# Altium integrated library TI Data Converters Analog to Digital Converter.IntLib: 2197 symbols (part 85 of 168)
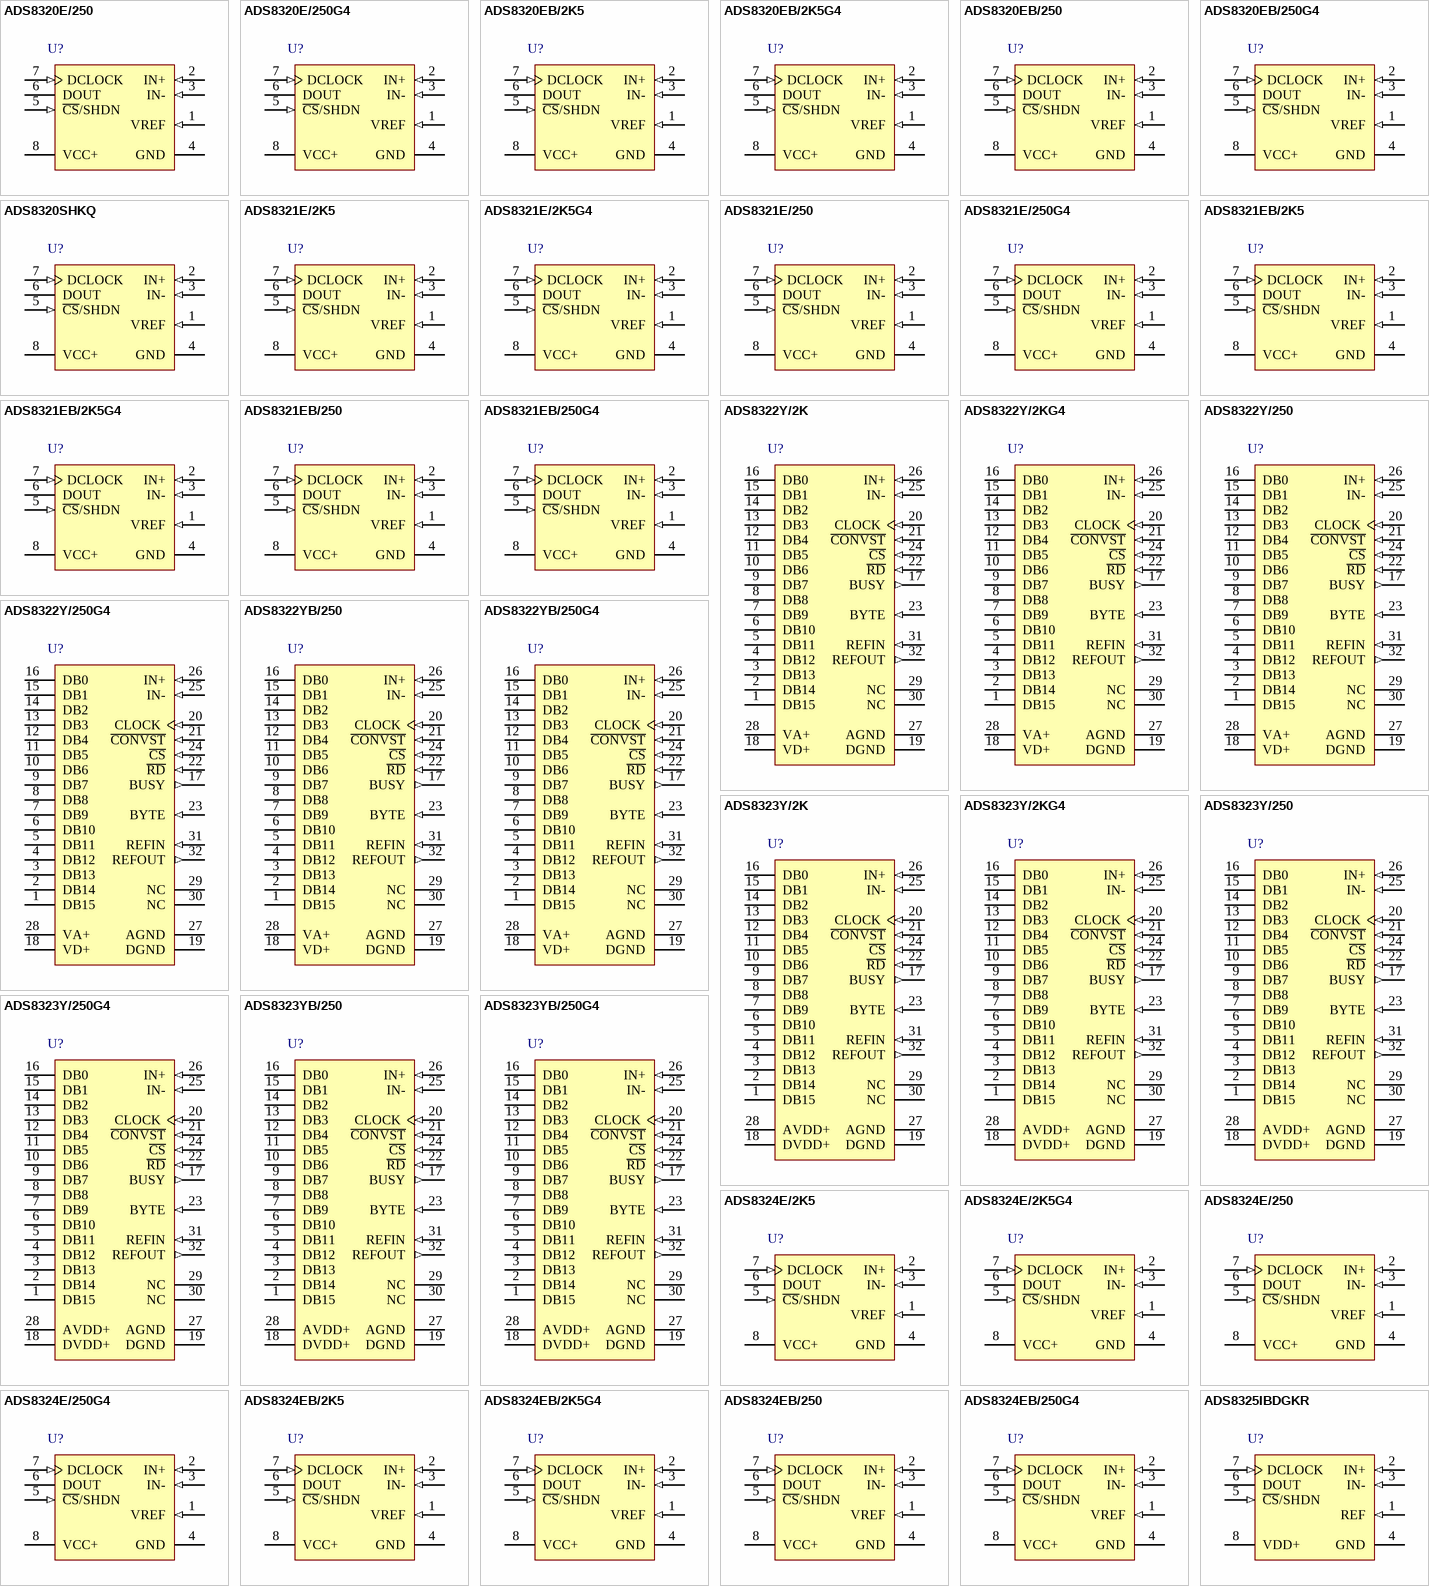
[diagram p210: symbols ADS8320E/250 to ADS8325IBDGKR]

## ADS8323YB/250G4
designator U?
Pseudo Bipolar, 16-Bit, 500 kSPS CMOS ADC, -40 to 85 degC, 32-pin QFP (PBS32), Green (RoHS & no Sb/Br); Manufacturer: Texas Instruments; PartNumber: ADS8323YB/250G4; # Input Channels: 1; Analog Voltage AV/DD(Max)(V): 5.25; Analog Voltage AV/DD(Min)(V): 4.75; Architecture: SAR; INL(Max)(+/-LSB): 6; Interface: Parallel CMOS; Resolution(Bits): 16; Sample Rate (max)(SPS): 500k; SFDR(dB): 96; SINAD(dB): 83; SubFamily: Precision ADC (<=10MSPS); DatasheetVersion: SBAS224C; PackageVersion: 4087735/B, 07/2005; PackageReference: PBS32; PackageDescription: 32-Pin Plastic Flat Pack, Body 5 X 5 mm, Pitch 0.5 mm; Supplier 1: Digi-Key; Supplier Part Number 1: ADS823EG4-ND; Supplier 2: Mouser; Supplier Part Number 2: 595-ADS823EG4; Digital Supply(Max)(V): 5.25; Digital Supply(Min)(V): 4.75; Eco-Plan: Green (RoHS & no Sb/Br); Mounting Technology: Surface Mount; Code_JEDEC: MS-026; ComponentLink1Description: Manufacturer URL; ComponentLink1URL: http://www.ti.com/; ComponentLink2Description: Datasheet; ComponentLink2URL: http://www.ti.com/general/docs/lit/getliterature.tsp?genericPartNumber=ADS8323&fileType=pdf; ComponentLink3Description: Package Specification; ComponentLink3URL: http://www.ti.com/lit/ml/mpqf027a/mpqf027a.pdf
footprint TI-PBS32_N (QFP, 32-Leads, Body 5x5mm, Pitch 0.5mm, IPC Medium Density)
footprint TI-PBS32_L (QFP, 32-Leads, Body 5x5mm, Pitch 0.5mm, IPC High Density)
footprint TI-PBS32_M (QFP, 32-Leads, Body 5x5mm, Pitch 0.5mm, IPC Low Density)
pins: 1 DB15 (hiz) "Data Bit 15 (MSB)", 2 DB14 (hiz) "Data Bit 14", 3 DB13 (hiz) "Data Bit 13", 4 DB12 (hiz) "Data Bit 12", 5 DB11 (hiz) "Data Bit 11", 6 DB10 (hiz) "Data Bit 10", 7 DB9 (hiz) "Data Bit 9", 8 DB8 (hiz) "Data Bit 8", 9 DB7 (hiz) "Data Bit 7", 10 DB6 (hiz) "Data Bit 6", 11 DB5 (hiz) "Data Bit 5", 12 DB4 (hiz) "Data Bit 4", 13 DB3 (hiz) "Data Bit 3", 14 DB2 (hiz) "Data Bit 2", 15 DB1 (hiz) "Data Bit 1", 16 DB0 (hiz) "Data Bit 0 (LSB)", 17 BUSY (out) "High when a conversion is in progress.", 18 DVDD+ (power) "Digital Power Supply, +5VDC.", 19 DGND (power) "Digital Ground", 20 CLOCK (in) "An external CMOS-compatible clock can be applied to the CLOCK input to synchronize the conversion process to an external source.", 21 ~{CONVST} (in) "Convert Start", 22 ~{RD} (in) "Synchronization pulse for the parallel output.", 23 BYTE (in) "Selects eight most significant bits (low) or eight least significant bits (high). Data valid on pins 9-16.", 24 ~{CS} (in) "Chip Select", 25 IN- (in) "Inverting Input Channel", 26 IN+ (in) "Noninverting Input Channel", 27 AGND (power) "Analog Ground", 28 AVDD+ (power) "Analog Power Supply, +5VDC.", 29 NC "No connection", 30 NC "No connection", 31 REFIN (in) "Reference Input. When using the internal 2.5V reference, tie this pin directly to REFOUT.", 32 REFOUT (out) "Reference Output. A 0.1uF capacitor should be connected to this pin when the internal reference is used."

## ADS8324E/2K5
designator U?
14-Bit 50 kSPS ADC Serial Out, 1.8 V Operation, -40 to 85 degC, 8-pin SOP (DGK8), Green (RoHS & no Sb/Br); Manufacturer: Texas Instruments; PartNumber: ADS8324E/2K5; # Input Channels: 1; Analog Voltage AV/DD(Max)(V): 3.6; Analog Voltage AV/DD(Min)(V): 1.8; Architecture: SAR; INL(Max)(+/-LSB): 3; Interface: Serial SPI; Resolution(Bits): 14; Sample Rate (max)(SPS): 50k; SFDR(dB): 85; SINAD(dB): 77; SNR(dB): 78; SubFamily: Precision ADC (<=10MSPS); DatasheetVersion: SBAS172A; PackageVersion: 4073329/E, 05/2006; PackageReference: DGK8; PackageDescription: 8-Pin Thin Small Outline, Body 3 x 3 mm, Pitch 0.65 mm; Supplier 1: Digi-Key; Supplier Part Number 1: ADS822E-ND; Supplier 2: Farnell; Supplier Part Number 2: 1295961; Supplier 3: Newark; Supplier Part Number 3: 74C7212; Supplier 4: Mouser; Supplier Part Number 4: 595-ADS822E; Digital Supply(Max)(V): 3.6; Digital Supply(Min)(V): 1.8; Eco-Plan: Green (RoHS & no Sb/Br); Mounting Technology: Surface Mount; Code_JEDEC: MO-187; ComponentLink1Description: Manufacturer URL; ComponentLink1URL: http://www.ti.com/; ComponentLink2Description: Datasheet; ComponentLink2URL: http://www.ti.com/general/docs/lit/getliterature.tsp?genericPartNumber=ADS8324&fileType=pdf; ComponentLink3Description: Package Specification; ComponentLink3URL: http://www.ti.com/litv/pdf/mpds028d
footprint TI-DGK8_N (SOP, 8-Leads, Body 3x3mm, Pitch 0.65mm, IPC Medium Density)
footprint TI-DGK8_L (SOP, 8-Leads, Body 3x3mm, Pitch 0.65mm, IPC High Density)
footprint TI-DGK8_M (SOP, 8-Leads, Body 3x3mm, Pitch 0.65mm, IPC Low Density)
pins: 1 VREF (in) "Reference Input", 2 IN+ (in) "Non Inverting Input", 3 IN- (in) "Inverting Input", 4 GND (power) "Ground", 5 ~{CS}/SHDN (in) "Chip Select when LOW, Shutdown Mode when HIGH.", 6 DOUT (hiz) "The serial output data word is comprised of 16 bits of data. In operation, the data is valid on the rising edge of DCLOCK. The fifth falling edge of DCLOCK after the falling edge of C\S\ enables the serial output. After one (See Datasheet)", 7 DCLOCK (in) "Data Clock synchronizes the serial data transfer and determines conversion speed.", 8 VCC+ (power) "Power Supply"

## ADS8324E/2K5G4
designator U?
14-Bit 50 kSPS ADC Serial Out, 1.8 V Operation, -40 to 85 degC, 8-pin SOP (DGK8), Green (RoHS & no Sb/Br); Manufacturer: Texas Instruments; PartNumber: ADS8324E/2K5G4; # Input Channels: 1; Analog Voltage AV/DD(Max)(V): 3.6; Analog Voltage AV/DD(Min)(V): 1.8; Architecture: SAR; INL(Max)(+/-LSB): 3; Interface: Serial SPI; Resolution(Bits): 14; Sample Rate (max)(SPS): 50k; SFDR(dB): 85; SINAD(dB): 77; SNR(dB): 78; SubFamily: Precision ADC (<=10MSPS); DatasheetVersion: SBAS172A; PackageVersion: 4073329/E, 05/2006; PackageReference: DGK8; PackageDescription: 8-Pin Thin Small Outline, Body 3 x 3 mm, Pitch 0.65 mm; Supplier 1: Digi-Key; Supplier Part Number 1: ADS822E/1K-ND; Supplier 2: Mouser; Supplier Part Number 2: 595-ADS822E/1K; Digital Supply(Max)(V): 3.6; Digital Supply(Min)(V): 1.8; Eco-Plan: Green (RoHS & no Sb/Br); Mounting Technology: Surface Mount; Code_JEDEC: MO-187; ComponentLink1Description: Manufacturer URL; ComponentLink1URL: http://www.ti.com/; ComponentLink2Description: Datasheet; ComponentLink2URL: http://www.ti.com/general/docs/lit/getliterature.tsp?genericPartNumber=ADS8324&fileType=pdf; ComponentLink3Description: Package Specification; ComponentLink3URL: http://www.ti.com/litv/pdf/mpds028d
footprint TI-DGK8_N (SOP, 8-Leads, Body 3x3mm, Pitch 0.65mm, IPC Medium Density)
footprint TI-DGK8_L (SOP, 8-Leads, Body 3x3mm, Pitch 0.65mm, IPC High Density)
footprint TI-DGK8_M (SOP, 8-Leads, Body 3x3mm, Pitch 0.65mm, IPC Low Density)
pins: 1 VREF (in) "Reference Input", 2 IN+ (in) "Non Inverting Input", 3 IN- (in) "Inverting Input", 4 GND (power) "Ground", 5 ~{CS}/SHDN (in) "Chip Select when LOW, Shutdown Mode when HIGH.", 6 DOUT (hiz) "The serial output data word is comprised of 16 bits of data. In operation, the data is valid on the rising edge of DCLOCK. The fifth falling edge of DCLOCK after the falling edge of C\S\ enables the serial output. After one (See Datasheet)", 7 DCLOCK (in) "Data Clock synchronizes the serial data transfer and determines conversion speed.", 8 VCC+ (power) "Power Supply"

## ADS8324E/250
designator U?
14-Bit 50 kSPS ADC Serial Out, 1.8 V Operation, -40 to 85 degC, 8-pin SOP (DGK8), Green (RoHS & no Sb/Br); Manufacturer: Texas Instruments; PartNumber: ADS8324E/250; # Input Channels: 1; Analog Voltage AV/DD(Max)(V): 3.6; Analog Voltage AV/DD(Min)(V): 1.8; Architecture: SAR; INL(Max)(+/-LSB): 3; Interface: Serial SPI; Resolution(Bits): 14; Sample Rate (max)(SPS): 50k; SFDR(dB): 85; SINAD(dB): 77; SNR(dB): 78; SubFamily: Precision ADC (<=10MSPS); DatasheetVersion: SBAS172A; PackageVersion: 4073329/E, 05/2006; PackageReference: DGK8; PackageDescription: 8-Pin Thin Small Outline, Body 3 x 3 mm, Pitch 0.65 mm; Supplier 1: Digi-Key; Supplier Part Number 1: ADS822E/1KG4-ND; Supplier 2: Mouser; Supplier Part Number 2: 595-ADS822E/1KG4; Digital Supply(Max)(V): 3.6; Digital Supply(Min)(V): 1.8; Eco-Plan: Green (RoHS & no Sb/Br); Mounting Technology: Surface Mount; Code_JEDEC: MO-187; ComponentLink1Description: Manufacturer URL; ComponentLink1URL: http://www.ti.com/; ComponentLink2Description: Datasheet; ComponentLink2URL: http://www.ti.com/general/docs/lit/getliterature.tsp?genericPartNumber=ADS8324&fileType=pdf; ComponentLink3Description: Package Specification; ComponentLink3URL: http://www.ti.com/litv/pdf/mpds028d
footprint TI-DGK8_N (SOP, 8-Leads, Body 3x3mm, Pitch 0.65mm, IPC Medium Density)
footprint TI-DGK8_L (SOP, 8-Leads, Body 3x3mm, Pitch 0.65mm, IPC High Density)
footprint TI-DGK8_M (SOP, 8-Leads, Body 3x3mm, Pitch 0.65mm, IPC Low Density)
pins: 1 VREF (in) "Reference Input", 2 IN+ (in) "Non Inverting Input", 3 IN- (in) "Inverting Input", 4 GND (power) "Ground", 5 ~{CS}/SHDN (in) "Chip Select when LOW, Shutdown Mode when HIGH.", 6 DOUT (hiz) "The serial output data word is comprised of 16 bits of data. In operation, the data is valid on the rising edge of DCLOCK. The fifth falling edge of DCLOCK after the falling edge of C\S\ enables the serial output. After one (See Datasheet)", 7 DCLOCK (in) "Data Clock synchronizes the serial data transfer and determines conversion speed.", 8 VCC+ (power) "Power Supply"

## ADS8324E/250G4
designator U?
14-Bit 50 kSPS ADC Serial Out, 1.8 V Operation, -40 to 85 degC, 8-pin SOP (DGK8), Green (RoHS & no Sb/Br); Manufacturer: Texas Instruments; PartNumber: ADS8324E/250G4; # Input Channels: 1; Analog Voltage AV/DD(Max)(V): 3.6; Analog Voltage AV/DD(Min)(V): 1.8; Architecture: SAR; INL(Max)(+/-LSB): 3; Interface: Serial SPI; Resolution(Bits): 14; Sample Rate (max)(SPS): 50k; SFDR(dB): 85; SINAD(dB): 77; SNR(dB): 78; SubFamily: Precision ADC (<=10MSPS); DatasheetVersion: SBAS172A; PackageVersion: 4073329/E, 05/2006; PackageReference: DGK8; PackageDescription: 8-Pin Thin Small Outline, Body 3 x 3 mm, Pitch 0.65 mm; Supplier 1: Digi-Key; Supplier Part Number 1: ADS822EG4-ND; Supplier 2: Mouser; Supplier Part Number 2: 595-ADS822EG4; Digital Supply(Max)(V): 3.6; Digital Supply(Min)(V): 1.8; Eco-Plan: Green (RoHS & no Sb/Br); Mounting Technology: Surface Mount; Code_JEDEC: MO-187; ComponentLink1Description: Manufacturer URL; ComponentLink1URL: http://www.ti.com/; ComponentLink2Description: Datasheet; ComponentLink2URL: http://www.ti.com/general/docs/lit/getliterature.tsp?genericPartNumber=ADS8324&fileType=pdf; ComponentLink3Description: Package Specification; ComponentLink3URL: http://www.ti.com/litv/pdf/mpds028d
footprint TI-DGK8_N (SOP, 8-Leads, Body 3x3mm, Pitch 0.65mm, IPC Medium Density)
footprint TI-DGK8_L (SOP, 8-Leads, Body 3x3mm, Pitch 0.65mm, IPC High Density)
footprint TI-DGK8_M (SOP, 8-Leads, Body 3x3mm, Pitch 0.65mm, IPC Low Density)
pins: 1 VREF (in) "Reference Input", 2 IN+ (in) "Non Inverting Input", 3 IN- (in) "Inverting Input", 4 GND (power) "Ground", 5 ~{CS}/SHDN (in) "Chip Select when LOW, Shutdown Mode when HIGH.", 6 DOUT (hiz) "The serial output data word is comprised of 16 bits of data. In operation, the data is valid on the rising edge of DCLOCK. The fifth falling edge of DCLOCK after the falling edge of C\S\ enables the serial output. After one (See Datasheet)", 7 DCLOCK (in) "Data Clock synchronizes the serial data transfer and determines conversion speed.", 8 VCC+ (power) "Power Supply"

## ADS8324EB/2K5
designator U?
14-Bit 50 kSPS ADC Serial Out, 1.8 V Operation, -40 to 85 degC, 8-pin SOP (DGK8), Green (RoHS & no Sb/Br); Manufacturer: Texas Instruments; PartNumber: ADS8324EB/2K5; # Input Channels: 1; Analog Voltage AV/DD(Max)(V): 3.6; Analog Voltage AV/DD(Min)(V): 1.8; Architecture: SAR; INL(Max)(+/-LSB): 2; Interface: Serial SPI; Resolution(Bits): 14; Sample Rate (max)(SPS): 50k; SFDR(dB): 86; SINAD(dB): 78; SubFamily: Precision ADC (<=10MSPS); DatasheetVersion: SBAS172A; PackageVersion: 4073329/E, 05/2006; PackageReference: DGK8; PackageDescription: 8-Pin Thin Small Outline, Body 3 x 3 mm, Pitch 0.65 mm; Supplier 1: Digi-Key; Supplier Part Number 1: ADS805E-ND; Supplier 2: Farnell; Supplier Part Number 2: 1648608; Supplier 3: Newark; Supplier Part Number 3: 74C7202; Supplier 4: Mouser; Supplier Part Number 4: 595-ADS805E; Digital Supply(Max)(V): 3.6; Digital Supply(Min)(V): 1.8; Eco-Plan: Green (RoHS & no Sb/Br); SNR(dB): 78; Mounting Technology: Surface Mount; Code_JEDEC: MO-187; ComponentLink1Description: Manufacturer URL; ComponentLink1URL: http://www.ti.com/; ComponentLink2Description: Datasheet; ComponentLink2URL: http://www.ti.com/general/docs/lit/getliterature.tsp?genericPartNumber=ADS8324&fileType=pdf; ComponentLink3Description: Package Specification; ComponentLink3URL: http://www.ti.com/litv/pdf/mpds028d
footprint TI-DGK8_N (SOP, 8-Leads, Body 3x3mm, Pitch 0.65mm, IPC Medium Density)
footprint TI-DGK8_L (SOP, 8-Leads, Body 3x3mm, Pitch 0.65mm, IPC High Density)
footprint TI-DGK8_M (SOP, 8-Leads, Body 3x3mm, Pitch 0.65mm, IPC Low Density)
pins: 1 VREF (in) "Reference Input", 2 IN+ (in) "Non Inverting Input", 3 IN- (in) "Inverting Input", 4 GND (power) "Ground", 5 ~{CS}/SHDN (in) "Chip Select when LOW, Shutdown Mode when HIGH.", 6 DOUT (hiz) "The serial output data word is comprised of 16 bits of data. In operation, the data is valid on the rising edge of DCLOCK. The fifth falling edge of DCLOCK after the falling edge of C\S\ enables the serial output. After one (See Datasheet)", 7 DCLOCK (in) "Data Clock synchronizes the serial data transfer and determines conversion speed.", 8 VCC+ (power) "Power Supply"

## ADS8324EB/2K5G4
designator U?
14-Bit 50 kSPS ADC Serial Out, 1.8 V Operation, -40 to 85 degC, 8-pin SOP (DGK8), Green (RoHS & no Sb/Br); Manufacturer: Texas Instruments; PartNumber: ADS8324EB/2K5G4; # Input Channels: 1; Analog Voltage AV/DD(Max)(V): 3.6; Analog Voltage AV/DD(Min)(V): 1.8; Architecture: SAR; INL(Max)(+/-LSB): 2; Interface: Serial SPI; Resolution(Bits): 14; Sample Rate (max)(SPS): 50k; SFDR(dB): 86; SINAD(dB): 78; SubFamily: Precision ADC (<=10MSPS); DatasheetVersion: SBAS172A; PackageVersion: 4073329/E, 05/2006; PackageReference: DGK8; PackageDescription: 8-Pin Thin Small Outline, Body 3 x 3 mm, Pitch 0.65 mm; Supplier 1: Digi-Key; Supplier Part Number 1: ADS805E/1K-ND; Supplier 2: Newark; Supplier Part Number 2: 74C7203; Supplier 3: Mouser; Supplier Part Number 3: 595-ADS805E/1K; Digital Supply(Max)(V): 3.6; Digital Supply(Min)(V): 1.8; Eco-Plan: Green (RoHS & no Sb/Br); SNR(dB): 78; Mounting Technology: Surface Mount; Code_JEDEC: MO-187; ComponentLink1Description: Manufacturer URL; ComponentLink1URL: http://www.ti.com/; ComponentLink2Description: Datasheet; ComponentLink2URL: http://www.ti.com/general/docs/lit/getliterature.tsp?genericPartNumber=ADS8324&fileType=pdf; ComponentLink3Description: Package Specification; ComponentLink3URL: http://www.ti.com/litv/pdf/mpds028d
footprint TI-DGK8_N (SOP, 8-Leads, Body 3x3mm, Pitch 0.65mm, IPC Medium Density)
footprint TI-DGK8_L (SOP, 8-Leads, Body 3x3mm, Pitch 0.65mm, IPC High Density)
footprint TI-DGK8_M (SOP, 8-Leads, Body 3x3mm, Pitch 0.65mm, IPC Low Density)
pins: 1 VREF (in) "Reference Input", 2 IN+ (in) "Non Inverting Input", 3 IN- (in) "Inverting Input", 4 GND (power) "Ground", 5 ~{CS}/SHDN (in) "Chip Select when LOW, Shutdown Mode when HIGH.", 6 DOUT (hiz) "The serial output data word is comprised of 16 bits of data. In operation, the data is valid on the rising edge of DCLOCK. The fifth falling edge of DCLOCK after the falling edge of C\S\ enables the serial output. After one (See Datasheet)", 7 DCLOCK (in) "Data Clock synchronizes the serial data transfer and determines conversion speed.", 8 VCC+ (power) "Power Supply"

## ADS8324EB/250
designator U?
14-Bit 50 kSPS ADC Serial Out, 1.8 V Operation, -40 to 85 degC, 8-pin SOP (DGK8), Green (RoHS & no Sb/Br); Manufacturer: Texas Instruments; PartNumber: ADS8324EB/250; # Input Channels: 1; Analog Voltage AV/DD(Max)(V): 3.6; Analog Voltage AV/DD(Min)(V): 1.8; Architecture: SAR; INL(Max)(+/-LSB): 2; Interface: Serial SPI; Resolution(Bits): 14; Sample Rate (max)(SPS): 50k; SFDR(dB): 86; SINAD(dB): 78; SubFamily: Precision ADC (<=10MSPS); DatasheetVersion: SBAS172A; PackageVersion: 4073329/E, 05/2006; PackageReference: DGK8; PackageDescription: 8-Pin Thin Small Outline, Body 3 x 3 mm, Pitch 0.65 mm; Supplier 1: Digi-Key; Supplier Part Number 1: ADS805E/1KG4-ND; Supplier 2: Mouser; Supplier Part Number 2: 595-ADS805E/1KG4; Digital Supply(Max)(V): 3.6; Digital Supply(Min)(V): 1.8; Eco-Plan: Green (RoHS & no Sb/Br); SNR(dB): 78; Mounting Technology: Surface Mount; Code_JEDEC: MO-187; ComponentLink1Description: Manufacturer URL; ComponentLink1URL: http://www.ti.com/; ComponentLink2Description: Datasheet; ComponentLink2URL: http://www.ti.com/general/docs/lit/getliterature.tsp?genericPartNumber=ADS8324&fileType=pdf; ComponentLink3Description: Package Specification; ComponentLink3URL: http://www.ti.com/litv/pdf/mpds028d
footprint TI-DGK8_N (SOP, 8-Leads, Body 3x3mm, Pitch 0.65mm, IPC Medium Density)
footprint TI-DGK8_L (SOP, 8-Leads, Body 3x3mm, Pitch 0.65mm, IPC High Density)
footprint TI-DGK8_M (SOP, 8-Leads, Body 3x3mm, Pitch 0.65mm, IPC Low Density)
pins: 1 VREF (in) "Reference Input", 2 IN+ (in) "Non Inverting Input", 3 IN- (in) "Inverting Input", 4 GND (power) "Ground", 5 ~{CS}/SHDN (in) "Chip Select when LOW, Shutdown Mode when HIGH.", 6 DOUT (hiz) "The serial output data word is comprised of 16 bits of data. In operation, the data is valid on the rising edge of DCLOCK. The fifth falling edge of DCLOCK after the falling edge of C\S\ enables the serial output. After one (See Datasheet)", 7 DCLOCK (in) "Data Clock synchronizes the serial data transfer and determines conversion speed.", 8 VCC+ (power) "Power Supply"

## ADS8324EB/250G4
designator U?
14-Bit 50 kSPS ADC Serial Out, 1.8 V Operation, -40 to 85 degC, 8-pin SOP (DGK8), Green (RoHS & no Sb/Br); Manufacturer: Texas Instruments; PartNumber: ADS8324EB/250G4; # Input Channels: 1; Analog Voltage AV/DD(Max)(V): 3.6; Analog Voltage AV/DD(Min)(V): 1.8; Architecture: SAR; INL(Max)(+/-LSB): 2; Interface: Serial SPI; Resolution(Bits): 14; Sample Rate (max)(SPS): 50k; SFDR(dB): 86; SINAD(dB): 78; SubFamily: Precision ADC (<=10MSPS); DatasheetVersion: SBAS172A; PackageVersion: 4073329/E, 05/2006; PackageReference: DGK8; PackageDescription: 8-Pin Thin Small Outline, Body 3 x 3 mm, Pitch 0.65 mm; Supplier 1: Digi-Key; Supplier Part Number 1: ADS805EG4-ND; Supplier 2: Farnell; Supplier Part Number 2: 1214353; Supplier 3: Newark; Supplier Part Number 3: 96K6246; Supplier 4: Newark; Supplier Part Number 4: 24K4051; Supplier 5: Mouser; Supplier Part Number 5: 595-ADS805EG4; Digital Supply(Max)(V): 3.6; Digital Supply(Min)(V): 1.8; Eco-Plan: Green (RoHS & no Sb/Br); SNR(dB): 78; Mounting Technology: Surface Mount; Code_JEDEC: MO-187; ComponentLink1Description: Manufacturer URL; ComponentLink1URL: http://www.ti.com/; ComponentLink2Description: Datasheet; ComponentLink2URL: http://www.ti.com/general/docs/lit/getliterature.tsp?genericPartNumber=ADS8324&fileType=pdf; ComponentLink3Description: Package Specification; ComponentLink3URL: http://www.ti.com/litv/pdf/mpds028d
footprint TI-DGK8_N (SOP, 8-Leads, Body 3x3mm, Pitch 0.65mm, IPC Medium Density)
footprint TI-DGK8_L (SOP, 8-Leads, Body 3x3mm, Pitch 0.65mm, IPC High Density)
footprint TI-DGK8_M (SOP, 8-Leads, Body 3x3mm, Pitch 0.65mm, IPC Low Density)
pins: 1 VREF (in) "Reference Input", 2 IN+ (in) "Non Inverting Input", 3 IN- (in) "Inverting Input", 4 GND (power) "Ground", 5 ~{CS}/SHDN (in) "Chip Select when LOW, Shutdown Mode when HIGH.", 6 DOUT (hiz) "The serial output data word is comprised of 16 bits of data. In operation, the data is valid on the rising edge of DCLOCK. The fifth falling edge of DCLOCK after the falling edge of C\S\ enables the serial output. After one (See Datasheet)", 7 DCLOCK (in) "Data Clock synchronizes the serial data transfer and determines conversion speed.", 8 VCC+ (power) "Power Supply"

## ADS8325IBDGKR
designator U?
16-Bit, 100 kSPS Serial Out, 2.7 to 5.5 V Micro Power Sampling ADC, -40 to 85 degC, 8-pin SOP (DGK8), Green (RoHS & no Sb/Br); Manufacturer: Texas Instruments; PartNumber: ADS8325IBDGKR; # Input Channels: 1; Analog Voltage AV/DD(Max)(V): 5.5; Analog Voltage AV/DD(Min)(V): 2.7; Architecture: SAR; ENOB(Bits): 14.7; INL(Max)(+/-LSB): 4; Interface: Serial SPI; Resolution(Bits): 16; Sample Rate (max)(SPS): 100k; SFDR(dB): 108; SINAD(dB): 91; SubFamily: Precision ADC (<=10MSPS); DatasheetVersion: SBAS226C; PackageVersion: 4073329/E, 05/2006; PackageReference: DGK8; PackageDescription: 8-Pin Thin Small Outline, Body 3 x 3 mm, Pitch 0.65 mm; Supplier 1: Digi-Key; Supplier Part Number 1: ADS804E-ND; Supplier 2: Farnell; Supplier Part Number 2: 1459287; Supplier 3: Newark; Supplier Part Number 3: 61M4827; Supplier 4: Newark; Supplier Part Number 4: 35C1571; Supplier 5: Mouser; Supplier Part Number 5: 595-ADS804E; Digital Supply(Max)(V): 5.5; Digital Supply(Min)(V): 2.7; Eco-Plan: Green (RoHS & no Sb/Br); SNR(dB): 91; Mounting Technology: Surface Mount; Code_JEDEC: MO-187; ComponentLink1Description: Manufacturer URL; ComponentLink1URL: http://www.ti.com/; ComponentLink2Description: Datasheet; ComponentLink2URL: http://www.ti.com/general/docs/lit/getliterature.tsp?genericPartNumber=ADS8325&fileType=pdf; ComponentLink3Description: Package Specification; ComponentLink3URL: http://www.ti.com/litv/pdf/mpds028d
footprint TI-DGK8_N (SOP, 8-Leads, Body 3x3mm, Pitch 0.65mm, IPC Medium Density)
footprint TI-DGK8_L (SOP, 8-Leads, Body 3x3mm, Pitch 0.65mm, IPC High Density)
footprint TI-DGK8_M (SOP, 8-Leads, Body 3x3mm, Pitch 0.65mm, IPC Low Density)
pins: 1 REF (in) "Reference Input", 2 IN+ (in) "Noninverting Input", 3 IN- (in) "Inverting Analog Input", 4 GND (power) "Ground", 5 ~{CS}/SHDN (in) "Chip select when low; Shutdown mode when high.", 6 DOUT (hiz) "The serial output data word.", 7 DCLOCK (in) "Data clock synchronizes the serial data transfer and determines conversion speed.", 8 VDD+ (power) "Power supply"

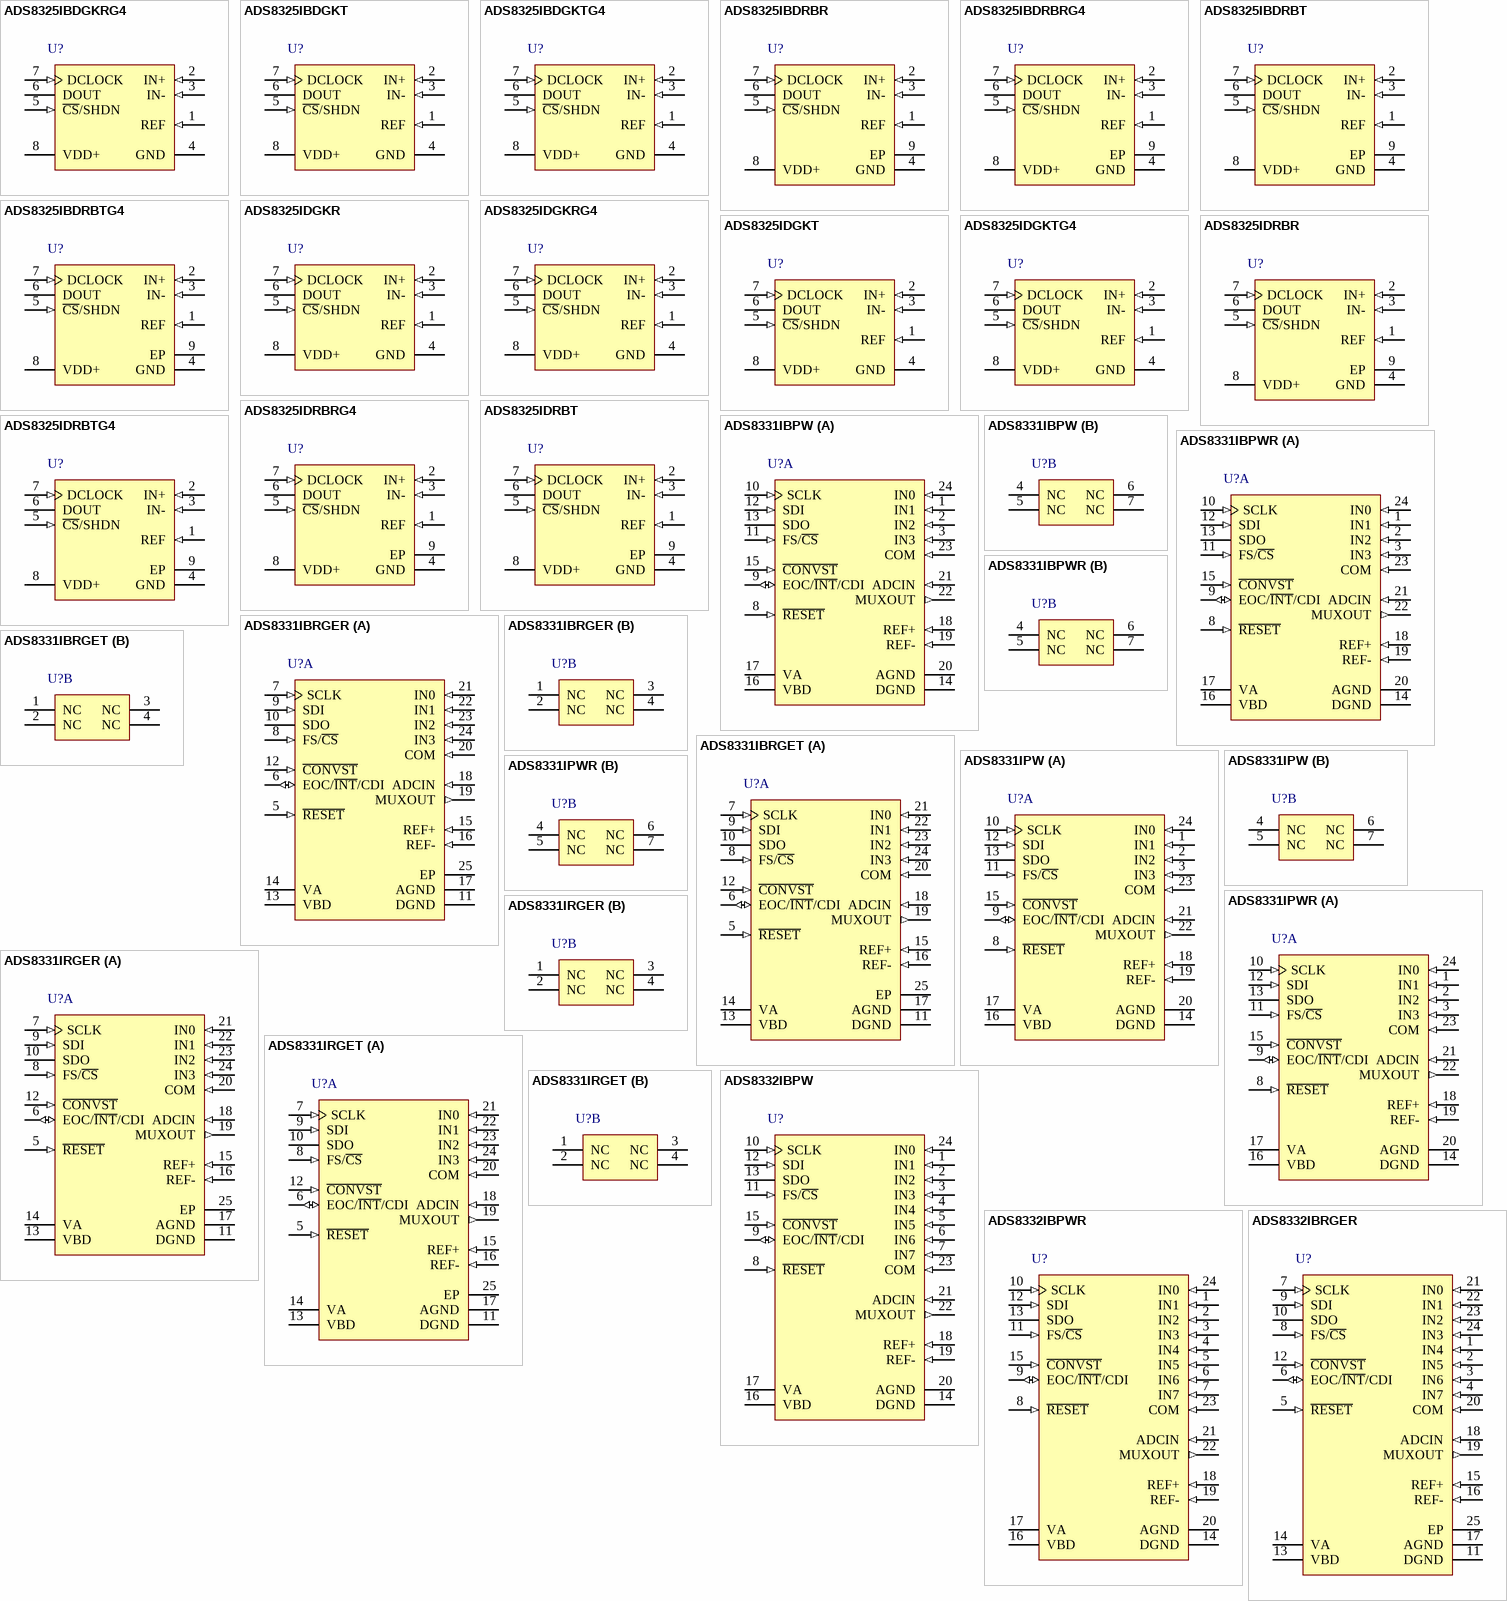
[diagram p74: symbols ADS8325IBDGKRG4 to ADS8332IBRGER]

## ADS8325IBDGKRG4
designator U?
16-Bit, 100 kSPS Serial Out, 2.7 to 5.5 V Micro Power Sampling ADC, -40 to 85 degC, 8-pin SOP (DGK8), Green (RoHS & no Sb/Br); Manufacturer: Texas Instruments; PartNumber: ADS8325IBDGKRG4; # Input Channels: 1; Analog Voltage AV/DD(Max)(V): 5.5; Analog Voltage AV/DD(Min)(V): 2.7; Architecture: SAR; ENOB(Bits): 14.7; INL(Max)(+/-LSB): 4; Interface: Serial SPI; Resolution(Bits): 16; Sample Rate (max)(SPS): 100k; SFDR(dB): 108; SINAD(dB): 91; SubFamily: Precision ADC (<=10MSPS); DatasheetVersion: SBAS226C; PackageVersion: 4073329/E, 05/2006; PackageReference: DGK8; PackageDescription: 8-Pin Thin Small Outline, Body 3 x 3 mm, Pitch 0.65 mm; Supplier 1: Digi-Key; Supplier Part Number 1: ADS804E/1K-ND; Supplier 2: Mouser; Supplier Part Number 2: 595-ADS804E/1K; Digital Supply(Max)(V): 5.5; Digital Supply(Min)(V): 2.7; Eco-Plan: Green (RoHS & no Sb/Br); SNR(dB): 91; Mounting Technology: Surface Mount; Code_JEDEC: MO-187; ComponentLink1Description: Manufacturer URL; ComponentLink1URL: http://www.ti.com/; ComponentLink2Description: Datasheet; ComponentLink2URL: http://www.ti.com/general/docs/lit/getliterature.tsp?genericPartNumber=ADS8325&fileType=pdf; ComponentLink3Description: Package Specification; ComponentLink3URL: http://www.ti.com/litv/pdf/mpds028d
footprint TI-DGK8_N (SOP, 8-Leads, Body 3x3mm, Pitch 0.65mm, IPC Medium Density)
footprint TI-DGK8_L (SOP, 8-Leads, Body 3x3mm, Pitch 0.65mm, IPC High Density)
footprint TI-DGK8_M (SOP, 8-Leads, Body 3x3mm, Pitch 0.65mm, IPC Low Density)
pins: 1 REF (in) "Reference Input", 2 IN+ (in) "Noninverting Input", 3 IN- (in) "Inverting Analog Input", 4 GND (power) "Ground", 5 ~{CS}/SHDN (in) "Chip select when low; Shutdown mode when high.", 6 DOUT (hiz) "The serial output data word.", 7 DCLOCK (in) "Data clock synchronizes the serial data transfer and determines conversion speed.", 8 VDD+ (power) "Power supply"

## ADS8325IBDGKT
designator U?
16-Bit, 100 kSPS Serial Out, 2.7 to 5.5 V Micro Power Sampling ADC, -40 to 85 degC, 8-pin SOP (DGK8), Green (RoHS & no Sb/Br); Manufacturer: Texas Instruments; PartNumber: ADS8325IBDGKT; # Input Channels: 1; Analog Voltage AV/DD(Max)(V): 5.5; Analog Voltage AV/DD(Min)(V): 2.7; Architecture: SAR; ENOB(Bits): 14.7; INL(Max)(+/-LSB): 4; Interface: Serial SPI; Resolution(Bits): 16; Sample Rate (max)(SPS): 100k; SFDR(dB): 108; SINAD(dB): 91; SubFamily: Precision ADC (<=10MSPS); DatasheetVersion: SBAS226C; PackageVersion: 4073329/E, 05/2006; PackageReference: DGK8; PackageDescription: 8-Pin Thin Small Outline, Body 3 x 3 mm, Pitch 0.65 mm; Supplier 1: Digi-Key; Supplier Part Number 1: ADS804E/1KG4-ND; Supplier 2: Mouser; Supplier Part Number 2: 595-ADS804E/1KG4; Digital Supply(Max)(V): 5.5; Digital Supply(Min)(V): 2.7; Eco-Plan: Green (RoHS & no Sb/Br); SNR(dB): 91; Mounting Technology: Surface Mount; Code_JEDEC: MO-187; ComponentLink1Description: Manufacturer URL; ComponentLink1URL: http://www.ti.com/; ComponentLink2Description: Datasheet; ComponentLink2URL: http://www.ti.com/general/docs/lit/getliterature.tsp?genericPartNumber=ADS8325&fileType=pdf; ComponentLink3Description: Package Specification; ComponentLink3URL: http://www.ti.com/litv/pdf/mpds028d
footprint TI-DGK8_N (SOP, 8-Leads, Body 3x3mm, Pitch 0.65mm, IPC Medium Density)
footprint TI-DGK8_L (SOP, 8-Leads, Body 3x3mm, Pitch 0.65mm, IPC High Density)
footprint TI-DGK8_M (SOP, 8-Leads, Body 3x3mm, Pitch 0.65mm, IPC Low Density)
pins: 1 REF (in) "Reference Input", 2 IN+ (in) "Noninverting Input", 3 IN- (in) "Inverting Analog Input", 4 GND (power) "Ground", 5 ~{CS}/SHDN (in) "Chip select when low; Shutdown mode when high.", 6 DOUT (hiz) "The serial output data word.", 7 DCLOCK (in) "Data clock synchronizes the serial data transfer and determines conversion speed.", 8 VDD+ (power) "Power supply"

## ADS8325IBDGKTG4
designator U?
16-Bit, 100 kSPS Serial Out, 2.7 to 5.5 V Micro Power Sampling ADC, -40 to 85 degC, 8-pin SOP (DGK8), Green (RoHS & no Sb/Br); Manufacturer: Texas Instruments; PartNumber: ADS8325IBDGKTG4; # Input Channels: 1; Analog Voltage AV/DD(Max)(V): 5.5; Analog Voltage AV/DD(Min)(V): 2.7; Architecture: SAR; ENOB(Bits): 14.7; INL(Max)(+/-LSB): 4; Interface: Serial SPI; Resolution(Bits): 16; Sample Rate (max)(SPS): 100k; SFDR(dB): 108; SINAD(dB): 91; SubFamily: Precision ADC (<=10MSPS); DatasheetVersion: SBAS226C; PackageVersion: 4073329/E, 05/2006; PackageReference: DGK8; PackageDescription: 8-Pin Thin Small Outline, Body 3 x 3 mm, Pitch 0.65 mm; Supplier 1: Digi-Key; Supplier Part Number 1: ADS804EG4-ND; Supplier 2: Newark; Supplier Part Number 2: 53K9163; Supplier 3: Mouser; Supplier Part Number 3: 595-ADS804EG4; Digital Supply(Max)(V): 5.5; Digital Supply(Min)(V): 2.7; Eco-Plan: Green (RoHS & no Sb/Br); SNR(dB): 91; Mounting Technology: Surface Mount; Code_JEDEC: MO-187; ComponentLink1Description: Manufacturer URL; ComponentLink1URL: http://www.ti.com/; ComponentLink2Description: Datasheet; ComponentLink2URL: http://www.ti.com/general/docs/lit/getliterature.tsp?genericPartNumber=ADS8325&fileType=pdf; ComponentLink3Description: Package Specification; ComponentLink3URL: http://www.ti.com/litv/pdf/mpds028d
footprint TI-DGK8_N (SOP, 8-Leads, Body 3x3mm, Pitch 0.65mm, IPC Medium Density)
footprint TI-DGK8_L (SOP, 8-Leads, Body 3x3mm, Pitch 0.65mm, IPC High Density)
footprint TI-DGK8_M (SOP, 8-Leads, Body 3x3mm, Pitch 0.65mm, IPC Low Density)
pins: 1 REF (in) "Reference Input", 2 IN+ (in) "Noninverting Input", 3 IN- (in) "Inverting Analog Input", 4 GND (power) "Ground", 5 ~{CS}/SHDN (in) "Chip select when low; Shutdown mode when high.", 6 DOUT (hiz) "The serial output data word.", 7 DCLOCK (in) "Data clock synchronizes the serial data transfer and determines conversion speed.", 8 VDD+ (power) "Power supply"

## ADS8325IBDRBR
designator U?
16-Bit, 100 kSPS Serial Out, 2.7 to 5.5 V Micro Power Sampling ADC, -40 to 85 degC, 8-pin SON (DRB8), Green (RoHS & no Sb/Br); Manufacturer: Texas Instruments; PartNumber: ADS8325IBDRBR; # Input Channels: 1; Analog Voltage AV/DD(Max)(V): 5.5; Analog Voltage AV/DD(Min)(V): 2.7; Architecture: SAR; ENOB(Bits): 14.7; INL(Max)(+/-LSB): 4; Interface: Serial SPI; Resolution(Bits): 16; Sample Rate (max)(SPS): 100k; SFDR(dB): 108; SINAD(dB): 91; SubFamily: Precision ADC (<=10MSPS); DatasheetVersion: SBAS226C; PackageVersion: 4203482-2/K, 06/2012; PackageReference: DRB8-2400X1650TP; PackageDescription: 8-Pin Plastic Small Outline, Body 3 x 3 mm, Pitch 0.65 mm; Supplier 1: Digi-Key; Supplier Part Number 1: ADS803E-ND; Supplier 2: Farnell; Supplier Part Number 2: 1097455; Supplier 3: Newark; Supplier Part Number 3: 74C7199; Supplier 4: Mouser; Supplier Part Number 4: 595-ADS803E; Digital Supply(Max)(V): 5.5; Digital Supply(Min)(V): 2.7; Eco-Plan: Green (RoHS & no Sb/Br); SNR(dB): 91; Mounting Technology: Surface Mount; ComponentLink1Description: Manufacturer URL; ComponentLink1URL: http://www.ti.com/; ComponentLink2Description: Datasheet; ComponentLink2URL: http://www.ti.com/general/docs/lit/getliterature.tsp?genericPartNumber=ADS8325&fileType=pdf; ComponentLink3Description: Package Specification; ComponentLink3URL: http://www.ti.com/litv/pdf/mpds118h
footprint TI-DRB8-2400X1650TP_V (SON, 8-Leads, Body 3x3mm, Pitch 0.65mm, Thermal Pad 2.4x1.65mm)
pins: 1 REF (in) "Reference Input", 2 IN+ (in) "Noninverting Input", 3 IN- (in) "Inverting Analog Input", 4 GND (power) "Ground", 5 ~{CS}/SHDN (in) "Chip select when low; Shutdown mode when high.", 6 DOUT (hiz) "The serial output data word.", 7 DCLOCK (in) "Data clock synchronizes the serial data transfer and determines conversion speed.", 8 VDD+ (power) "Power supply", 9 EP (power)

## ADS8325IBDRBRG4
designator U?
16-Bit, 100 kSPS Serial Out, 2.7 to 5.5 V Micro Power Sampling ADC, -40 to 85 degC, 8-pin SON (DRB8), Green (RoHS & no Sb/Br); Manufacturer: Texas Instruments; PartNumber: ADS8325IBDRBRG4; # Input Channels: 1; Analog Voltage AV/DD(Max)(V): 5.5; Analog Voltage AV/DD(Min)(V): 2.7; Architecture: SAR; ENOB(Bits): 14.7; INL(Max)(+/-LSB): 4; Interface: Serial SPI; Resolution(Bits): 16; Sample Rate (max)(SPS): 100k; SFDR(dB): 108; SINAD(dB): 91; SubFamily: Precision ADC (<=10MSPS); DatasheetVersion: SBAS226C; PackageVersion: 4203482-2/K, 06/2012; PackageReference: DRB8-2400X1650TP; PackageDescription: 8-Pin Plastic Small Outline, Body 3 x 3 mm, Pitch 0.65 mm; Supplier 1: Digi-Key; Supplier Part Number 1: ADS803E/1K-ND; Supplier 2: Mouser; Supplier Part Number 2: 595-ADS803E/1K; Digital Supply(Max)(V): 5.5; Digital Supply(Min)(V): 2.7; Eco-Plan: Green (RoHS & no Sb/Br); SNR(dB): 91; Mounting Technology: Surface Mount; ComponentLink1Description: Manufacturer URL; ComponentLink1URL: http://www.ti.com/; ComponentLink2Description: Datasheet; ComponentLink2URL: http://www.ti.com/general/docs/lit/getliterature.tsp?genericPartNumber=ADS8325&fileType=pdf; ComponentLink3Description: Package Specification; ComponentLink3URL: http://www.ti.com/litv/pdf/mpds118h
footprint TI-DRB8-2400X1650TP_V (SON, 8-Leads, Body 3x3mm, Pitch 0.65mm, Thermal Pad 2.4x1.65mm)
pins: 1 REF (in) "Reference Input", 2 IN+ (in) "Noninverting Input", 3 IN- (in) "Inverting Analog Input", 4 GND (power) "Ground", 5 ~{CS}/SHDN (in) "Chip select when low; Shutdown mode when high.", 6 DOUT (hiz) "The serial output data word.", 7 DCLOCK (in) "Data clock synchronizes the serial data transfer and determines conversion speed.", 8 VDD+ (power) "Power supply", 9 EP (power)

## ADS8325IBDRBT
designator U?
16-Bit, 100 kSPS Serial Out, 2.7 to 5.5 V Micro Power Sampling ADC, -40 to 85 degC, 8-pin SON (DRB8), Green (RoHS & no Sb/Br); Manufacturer: Texas Instruments; PartNumber: ADS8325IBDRBT; # Input Channels: 1; Analog Voltage AV/DD(Max)(V): 5.5; Analog Voltage AV/DD(Min)(V): 2.7; Architecture: SAR; ENOB(Bits): 14.7; INL(Max)(+/-LSB): 4; Interface: Serial SPI; Resolution(Bits): 16; Sample Rate (max)(SPS): 100k; SFDR(dB): 108; SINAD(dB): 91; SubFamily: Precision ADC (<=10MSPS); DatasheetVersion: SBAS226C; PackageVersion: 4203482-2/K, 06/2012; PackageReference: DRB8-2400X1650TP; PackageDescription: 8-Pin Plastic Small Outline, Body 3 x 3 mm, Pitch 0.65 mm; Supplier 1: Digi-Key; Supplier Part Number 1: ADS803E/1KG4-ND; Supplier 2: Mouser; Supplier Part Number 2: 595-ADS803E/1KG4; Digital Supply(Max)(V): 5.5; Digital Supply(Min)(V): 2.7; Eco-Plan: Green (RoHS & no Sb/Br); SNR(dB): 91; Mounting Technology: Surface Mount; ComponentLink1Description: Manufacturer URL; ComponentLink1URL: http://www.ti.com/; ComponentLink2Description: Datasheet; ComponentLink2URL: http://www.ti.com/general/docs/lit/getliterature.tsp?genericPartNumber=ADS8325&fileType=pdf; ComponentLink3Description: Package Specification; ComponentLink3URL: http://www.ti.com/litv/pdf/mpds118h
footprint TI-DRB8-2400X1650TP_V (SON, 8-Leads, Body 3x3mm, Pitch 0.65mm, Thermal Pad 2.4x1.65mm)
pins: 1 REF (in) "Reference Input", 2 IN+ (in) "Noninverting Input", 3 IN- (in) "Inverting Analog Input", 4 GND (power) "Ground", 5 ~{CS}/SHDN (in) "Chip select when low; Shutdown mode when high.", 6 DOUT (hiz) "The serial output data word.", 7 DCLOCK (in) "Data clock synchronizes the serial data transfer and determines conversion speed.", 8 VDD+ (power) "Power supply", 9 EP (power)

## ADS8325IBDRBTG4
designator U?
16-Bit, 100 kSPS Serial Out, 2.7 to 5.5 V Micro Power Sampling ADC, -40 to 85 degC, 8-pin SON (DRB8), Green (RoHS & no Sb/Br); Manufacturer: Texas Instruments; PartNumber: ADS8325IBDRBTG4; # Input Channels: 1; Analog Voltage AV/DD(Max)(V): 5.5; Analog Voltage AV/DD(Min)(V): 2.7; Architecture: SAR; ENOB(Bits): 14.7; INL(Max)(+/-LSB): 4; Interface: Serial SPI; Resolution(Bits): 16; Sample Rate (max)(SPS): 100k; SFDR(dB): 108; SINAD(dB): 91; SubFamily: Precision ADC (<=10MSPS); DatasheetVersion: SBAS226C; PackageVersion: 4203482-2/K, 06/2012; PackageReference: DRB8-2400X1650TP; PackageDescription: 8-Pin Plastic Small Outline, Body 3 x 3 mm, Pitch 0.65 mm; Supplier 1: Digi-Key; Supplier Part Number 1: ADS803EG4-ND; Supplier 2: Mouser; Supplier Part Number 2: 595-ADS803EG4; Digital Supply(Max)(V): 5.5; Digital Supply(Min)(V): 2.7; Eco-Plan: Green (RoHS & no Sb/Br); SNR(dB): 91; Mounting Technology: Surface Mount; ComponentLink1Description: Manufacturer URL; ComponentLink1URL: http://www.ti.com/; ComponentLink2Description: Datasheet; ComponentLink2URL: http://www.ti.com/general/docs/lit/getliterature.tsp?genericPartNumber=ADS8325&fileType=pdf; ComponentLink3Description: Package Specification; ComponentLink3URL: http://www.ti.com/litv/pdf/mpds118h
footprint TI-DRB8-2400X1650TP_V (SON, 8-Leads, Body 3x3mm, Pitch 0.65mm, Thermal Pad 2.4x1.65mm)
pins: 1 REF (in) "Reference Input", 2 IN+ (in) "Noninverting Input", 3 IN- (in) "Inverting Analog Input", 4 GND (power) "Ground", 5 ~{CS}/SHDN (in) "Chip select when low; Shutdown mode when high.", 6 DOUT (hiz) "The serial output data word.", 7 DCLOCK (in) "Data clock synchronizes the serial data transfer and determines conversion speed.", 8 VDD+ (power) "Power supply", 9 EP (power)

## ADS8325IDGKR
designator U?
16-Bit, 100 kSPS Serial Out, 2.7 to 5.5 V Micro Power Sampling ADC, -40 to 85 degC, 8-pin SOP (DGK8), Green (RoHS & no Sb/Br); Manufacturer: Texas Instruments; PartNumber: ADS8325IDGKR; # Input Channels: 1; Analog Voltage AV/DD(Max)(V): 5.5; Analog Voltage AV/DD(Min)(V): 2.7; Architecture: SAR; ENOB(Bits): 14.6; INL(Max)(+/-LSB): 6; Interface: Serial SPI; Resolution(Bits): 16; Sample Rate (max)(SPS): 100k; SFDR(dB): 100; SINAD(dB): 90; SubFamily: Precision ADC (<=10MSPS); DatasheetVersion: SBAS226C; PackageVersion: 4073329/E, 05/2006; PackageReference: DGK8; PackageDescription: 8-Pin Thin Small Outline, Body 3 x 3 mm, Pitch 0.65 mm; Supplier 1: Digi-Key; Supplier Part Number 1: ADS931E-ND; Supplier 2: Newark; Supplier Part Number 2: 74C7268; Supplier 3: Mouser; Supplier Part Number 3: 595-ADS931E; Digital Supply(Max)(V): 5.5; Digital Supply(Min)(V): 2.7; Eco-Plan: Green (RoHS & no Sb/Br); SNR(dB): 90; Mounting Technology: Surface Mount; Code_JEDEC: MO-187; ComponentLink1Description: Manufacturer URL; ComponentLink1URL: http://www.ti.com/; ComponentLink2Description: Datasheet; ComponentLink2URL: http://www.ti.com/general/docs/lit/getliterature.tsp?genericPartNumber=ADS8325&fileType=pdf; ComponentLink3Description: Package Specification; ComponentLink3URL: http://www.ti.com/litv/pdf/mpds028d
footprint TI-DGK8_N (SOP, 8-Leads, Body 3x3mm, Pitch 0.65mm, IPC Medium Density)
footprint TI-DGK8_L (SOP, 8-Leads, Body 3x3mm, Pitch 0.65mm, IPC High Density)
footprint TI-DGK8_M (SOP, 8-Leads, Body 3x3mm, Pitch 0.65mm, IPC Low Density)
pins: 1 REF (in) "Reference Input", 2 IN+ (in) "Noninverting Input", 3 IN- (in) "Inverting Analog Input", 4 GND (power) "Ground", 5 ~{CS}/SHDN (in) "Chip select when low; Shutdown mode when high.", 6 DOUT (hiz) "The serial output data word.", 7 DCLOCK (in) "Data clock synchronizes the serial data transfer and determines conversion speed.", 8 VDD+ (power) "Power supply"

## ADS8325IDGKRG4
designator U?
16-Bit, 100 kSPS Serial Out, 2.7 to 5.5 V Micro Power Sampling ADC, -40 to 85 degC, 8-pin SOP (DGK8), Green (RoHS & no Sb/Br); Manufacturer: Texas Instruments; PartNumber: ADS8325IDGKRG4; # Input Channels: 1; Analog Voltage AV/DD(Max)(V): 5.5; Analog Voltage AV/DD(Min)(V): 2.7; Architecture: SAR; ENOB(Bits): 14.6; INL(Max)(+/-LSB): 6; Interface: Serial SPI; Resolution(Bits): 16; Sample Rate (max)(SPS): 100k; SFDR(dB): 100; SINAD(dB): 90; SubFamily: Precision ADC (<=10MSPS); DatasheetVersion: SBAS226C; PackageVersion: 4073329/E, 05/2006; PackageReference: DGK8; PackageDescription: 8-Pin Thin Small Outline, Body 3 x 3 mm, Pitch 0.65 mm; Supplier 1: Digi-Key; Supplier Part Number 1: ADS931E/1K-ND; Supplier 2: Mouser; Supplier Part Number 2: 595-ADS931E/1K; Digital Supply(Max)(V): 5.5; Digital Supply(Min)(V): 2.7; Eco-Plan: Green (RoHS & no Sb/Br); SNR(dB): 90; Mounting Technology: Surface Mount; Code_JEDEC: MO-187; ComponentLink1Description: Manufacturer URL; ComponentLink1URL: http://www.ti.com/; ComponentLink2Description: Datasheet; ComponentLink2URL: http://www.ti.com/general/docs/lit/getliterature.tsp?genericPartNumber=ADS8325&fileType=pdf; ComponentLink3Description: Package Specification; ComponentLink3URL: http://www.ti.com/litv/pdf/mpds028d
footprint TI-DGK8_N (SOP, 8-Leads, Body 3x3mm, Pitch 0.65mm, IPC Medium Density)
footprint TI-DGK8_L (SOP, 8-Leads, Body 3x3mm, Pitch 0.65mm, IPC High Density)
footprint TI-DGK8_M (SOP, 8-Leads, Body 3x3mm, Pitch 0.65mm, IPC Low Density)
pins: 1 REF (in) "Reference Input", 2 IN+ (in) "Noninverting Input", 3 IN- (in) "Inverting Analog Input", 4 GND (power) "Ground", 5 ~{CS}/SHDN (in) "Chip select when low; Shutdown mode when high.", 6 DOUT (hiz) "The serial output data word.", 7 DCLOCK (in) "Data clock synchronizes the serial data transfer and determines conversion speed.", 8 VDD+ (power) "Power supply"

## ADS8325IDGKT
designator U?
16-Bit, 100 kSPS Serial Out, 2.7 to 5.5 V Micro Power Sampling ADC, -40 to 85 degC, 8-pin SOP (DGK8), Green (RoHS & no Sb/Br); Manufacturer: Texas Instruments; PartNumber: ADS8325IDGKT; # Input Channels: 1; Analog Voltage AV/DD(Max)(V): 5.5; Analog Voltage AV/DD(Min)(V): 2.7; Architecture: SAR; ENOB(Bits): 14.6; INL(Max)(+/-LSB): 6; Interface: Serial SPI; Resolution(Bits): 16; Sample Rate (max)(SPS): 100k; SFDR(dB): 100; SINAD(dB): 90; SubFamily: Precision ADC (<=10MSPS); DatasheetVersion: SBAS226C; PackageVersion: 4073329/E, 05/2006; PackageReference: DGK8; PackageDescription: 8-Pin Thin Small Outline, Body 3 x 3 mm, Pitch 0.65 mm; Supplier 1: Digi-Key; Supplier Part Number 1: ADS931E/1KG4-ND; Supplier 2: Mouser; Supplier Part Number 2: 595-ADS931E/1KG4; Digital Supply(Max)(V): 5.5; Digital Supply(Min)(V): 2.7; Eco-Plan: Green (RoHS & no Sb/Br); SNR(dB): 90; Mounting Technology: Surface Mount; Code_JEDEC: MO-187; ComponentLink1Description: Manufacturer URL; ComponentLink1URL: http://www.ti.com/; ComponentLink2Description: Datasheet; ComponentLink2URL: http://www.ti.com/general/docs/lit/getliterature.tsp?genericPartNumber=ADS8325&fileType=pdf; ComponentLink3Description: Package Specification; ComponentLink3URL: http://www.ti.com/litv/pdf/mpds028d
footprint TI-DGK8_N (SOP, 8-Leads, Body 3x3mm, Pitch 0.65mm, IPC Medium Density)
footprint TI-DGK8_L (SOP, 8-Leads, Body 3x3mm, Pitch 0.65mm, IPC High Density)
footprint TI-DGK8_M (SOP, 8-Leads, Body 3x3mm, Pitch 0.65mm, IPC Low Density)
pins: 1 REF (in) "Reference Input", 2 IN+ (in) "Noninverting Input", 3 IN- (in) "Inverting Analog Input", 4 GND (power) "Ground", 5 ~{CS}/SHDN (in) "Chip select when low; Shutdown mode when high.", 6 DOUT (hiz) "The serial output data word.", 7 DCLOCK (in) "Data clock synchronizes the serial data transfer and determines conversion speed.", 8 VDD+ (power) "Power supply"

## ADS8325IDGKTG4
designator U?
16-Bit, 100 kSPS Serial Out, 2.7 to 5.5 V Micro Power Sampling ADC, -40 to 85 degC, 8-pin SOP (DGK8), Green (RoHS & no Sb/Br); Manufacturer: Texas Instruments; PartNumber: ADS8325IDGKTG4; # Input Channels: 1; Analog Voltage AV/DD(Max)(V): 5.5; Analog Voltage AV/DD(Min)(V): 2.7; Architecture: SAR; ENOB(Bits): 14.6; INL(Max)(+/-LSB): 6; Interface: Serial SPI; Resolution(Bits): 16; Sample Rate (max)(SPS): 100k; SFDR(dB): 100; SINAD(dB): 90; SubFamily: Precision ADC (<=10MSPS); DatasheetVersion: SBAS226C; PackageVersion: 4073329/E, 05/2006; PackageReference: DGK8; PackageDescription: 8-Pin Thin Small Outline, Body 3 x 3 mm, Pitch 0.65 mm; Supplier 1: Digi-Key; Supplier Part Number 1: ADS931EG4-ND; Supplier 2: Newark; Supplier Part Number 2: 53K9197; Supplier 3: Mouser; Supplier Part Number 3: 595-ADS931EG4; Digital Supply(Max)(V): 5.5; Digital Supply(Min)(V): 2.7; Eco-Plan: Green (RoHS & no Sb/Br); SNR(dB): 90; Mounting Technology: Surface Mount; Code_JEDEC: MO-187; ComponentLink1Description: Manufacturer URL; ComponentLink1URL: http://www.ti.com/; ComponentLink2Description: Datasheet; ComponentLink2URL: http://www.ti.com/general/docs/lit/getliterature.tsp?genericPartNumber=ADS8325&fileType=pdf; ComponentLink3Description: Package Specification; ComponentLink3URL: http://www.ti.com/litv/pdf/mpds028d
footprint TI-DGK8_N (SOP, 8-Leads, Body 3x3mm, Pitch 0.65mm, IPC Medium Density)
footprint TI-DGK8_L (SOP, 8-Leads, Body 3x3mm, Pitch 0.65mm, IPC High Density)
footprint TI-DGK8_M (SOP, 8-Leads, Body 3x3mm, Pitch 0.65mm, IPC Low Density)
pins: 1 REF (in) "Reference Input", 2 IN+ (in) "Noninverting Input", 3 IN- (in) "Inverting Analog Input", 4 GND (power) "Ground", 5 ~{CS}/SHDN (in) "Chip select when low; Shutdown mode when high.", 6 DOUT (hiz) "The serial output data word.", 7 DCLOCK (in) "Data clock synchronizes the serial data transfer and determines conversion speed.", 8 VDD+ (power) "Power supply"

## ADS8325IDRBR
designator U?
16-Bit, 100 kSPS Serial Out, 2.7 to 5.5 V Micro Power Sampling ADC, -40 to 85 degC, 8-pin SON (DRB8), Green (RoHS & no Sb/Br); Manufacturer: Texas Instruments; PartNumber: ADS8325IDRBR; # Input Channels: 1; Analog Voltage AV/DD(Max)(V): 5.5; Analog Voltage AV/DD(Min)(V): 2.7; Architecture: SAR; ENOB(Bits): 14.6; INL(Max)(+/-LSB): 6; Interface: Serial SPI; Resolution(Bits): 16; Sample Rate (max)(SPS): 100k; SFDR(dB): 100; SINAD(dB): 90; SubFamily: Precision ADC (<=10MSPS); DatasheetVersion: SBAS226C; PackageVersion: 4203482-2/K, 06/2012; PackageReference: DRB8-2400X1650TP; PackageDescription: 8-Pin Plastic Small Outline, Body 3 x 3 mm, Pitch 0.65 mm; Supplier 1: Digi-Key; Supplier Part Number 1: ADS930E-ND; Supplier 2: Newark; Supplier Part Number 2: 35C1592; Supplier 3: Mouser; Supplier Part Number 3: 595-ADS930E; Digital Supply(Max)(V): 5.5; Digital Supply(Min)(V): 2.7; Eco-Plan: Green (RoHS & no Sb/Br); SNR(dB): 90; Mounting Technology: Surface Mount; ComponentLink1Description: Manufacturer URL; ComponentLink1URL: http://www.ti.com/; ComponentLink2Description: Datasheet; ComponentLink2URL: http://www.ti.com/general/docs/lit/getliterature.tsp?genericPartNumber=ADS8325&fileType=pdf; ComponentLink3Description: Package Specification; ComponentLink3URL: http://www.ti.com/litv/pdf/mpds118h
footprint TI-DRB8-2400X1650TP_V (SON, 8-Leads, Body 3x3mm, Pitch 0.65mm, Thermal Pad 2.4x1.65mm)
pins: 1 REF (in) "Reference Input", 2 IN+ (in) "Noninverting Input", 3 IN- (in) "Inverting Analog Input", 4 GND (power) "Ground", 5 ~{CS}/SHDN (in) "Chip select when low; Shutdown mode when high.", 6 DOUT (hiz) "The serial output data word.", 7 DCLOCK (in) "Data clock synchronizes the serial data transfer and determines conversion speed.", 8 VDD+ (power) "Power supply", 9 EP (power)

## ADS8325IDRBRG4
designator U?
16-Bit, 100 kSPS Serial Out, 2.7 to 5.5 V Micro Power Sampling ADC, -40 to 85 degC, 8-pin SON (DRB8), Green (RoHS & no Sb/Br); Manufacturer: Texas Instruments; PartNumber: ADS8325IDRBRG4; # Input Channels: 1; Analog Voltage AV/DD(Max)(V): 5.5; Analog Voltage AV/DD(Min)(V): 2.7; Architecture: SAR; ENOB(Bits): 14.6; INL(Max)(+/-LSB): 6; Interface: Serial SPI; Resolution(Bits): 16; Sample Rate (max)(SPS): 100k; SFDR(dB): 100; SINAD(dB): 90; SubFamily: Precision ADC (<=10MSPS); DatasheetVersion: SBAS226C; PackageVersion: 4203482-2/K, 06/2012; PackageReference: DRB8-2400X1650TP; PackageDescription: 8-Pin Plastic Small Outline, Body 3 x 3 mm, Pitch 0.65 mm; Supplier 1: Digi-Key; Supplier Part Number 1: ADS930E/1K-ND; Supplier 2: Newark; Supplier Part Number 2: 74C7267; Supplier 3: Mouser; Supplier Part Number 3: 595-ADS930E/1K; Digital Supply(Max)(V): 5.5; Digital Supply(Min)(V): 2.7; Eco-Plan: Green (RoHS & no Sb/Br); SNR(dB): 90; Mounting Technology: Surface Mount; ComponentLink1Description: Manufacturer URL; ComponentLink1URL: http://www.ti.com/; ComponentLink2Description: Datasheet; ComponentLink2URL: http://www.ti.com/general/docs/lit/getliterature.tsp?genericPartNumber=ADS8325&fileType=pdf; ComponentLink3Description: Package Specification; ComponentLink3URL: http://www.ti.com/litv/pdf/mpds118h
footprint TI-DRB8-2400X1650TP_V (SON, 8-Leads, Body 3x3mm, Pitch 0.65mm, Thermal Pad 2.4x1.65mm)
pins: 1 REF (in) "Reference Input", 2 IN+ (in) "Noninverting Input", 3 IN- (in) "Inverting Analog Input", 4 GND (power) "Ground", 5 ~{CS}/SHDN (in) "Chip select when low; Shutdown mode when high.", 6 DOUT (hiz) "The serial output data word.", 7 DCLOCK (in) "Data clock synchronizes the serial data transfer and determines conversion speed.", 8 VDD+ (power) "Power supply", 9 EP (power)

## ADS8325IDRBT
designator U?
16-Bit, 100 kSPS Serial Out, 2.7 to 5.5 V Micro Power Sampling ADC, -40 to 85 degC, 8-pin SON (DRB8), Green (RoHS & no Sb/Br); Manufacturer: Texas Instruments; PartNumber: ADS8325IDRBT; # Input Channels: 1; Analog Voltage AV/DD(Max)(V): 5.5; Analog Voltage AV/DD(Min)(V): 2.7; Architecture: SAR; ENOB(Bits): 14.6; INL(Max)(+/-LSB): 6; Interface: Serial SPI; Resolution(Bits): 16; Sample Rate (max)(SPS): 100k; SFDR(dB): 100; SINAD(dB): 90; SubFamily: Precision ADC (<=10MSPS); DatasheetVersion: SBAS226C; PackageVersion: 4203482-2/K, 06/2012; PackageReference: DRB8-2400X1650TP; PackageDescription: 8-Pin Plastic Small Outline, Body 3 x 3 mm, Pitch 0.65 mm; Supplier 1: Digi-Key; Supplier Part Number 1: ADS930E/1KG4-ND; Supplier 2: Newark; Supplier Part Number 2: 58K5413; Supplier 3: Mouser; Supplier Part Number 3: 595-ADS930E/1KG4; Digital Supply(Max)(V): 5.5; Digital Supply(Min)(V): 2.7; Eco-Plan: Green (RoHS & no Sb/Br); SNR(dB): 90; Mounting Technology: Surface Mount; ComponentLink1Description: Manufacturer URL; ComponentLink1URL: http://www.ti.com/; ComponentLink2Description: Datasheet; ComponentLink2URL: http://www.ti.com/general/docs/lit/getliterature.tsp?genericPartNumber=ADS8325&fileType=pdf; ComponentLink3Description: Package Specification; ComponentLink3URL: http://www.ti.com/litv/pdf/mpds118h
footprint TI-DRB8-2400X1650TP_V (SON, 8-Leads, Body 3x3mm, Pitch 0.65mm, Thermal Pad 2.4x1.65mm)
pins: 1 REF (in) "Reference Input", 2 IN+ (in) "Noninverting Input", 3 IN- (in) "Inverting Analog Input", 4 GND (power) "Ground", 5 ~{CS}/SHDN (in) "Chip select when low; Shutdown mode when high.", 6 DOUT (hiz) "The serial output data word.", 7 DCLOCK (in) "Data clock synchronizes the serial data transfer and determines conversion speed.", 8 VDD+ (power) "Power supply", 9 EP (power)